# Altium footprint library WSON-10_0.PcbLib: 1 footprints
Each footprint in its own frame and in the unit in brackets; x right, y up, seen from the top. Pads: shape width x height; smd on the part's side, far side on the other; paste and mask are expansions set on the pad; w line width, h text height; cw(c..) or ccw(c..) is an arc to the next point about the centre after c.
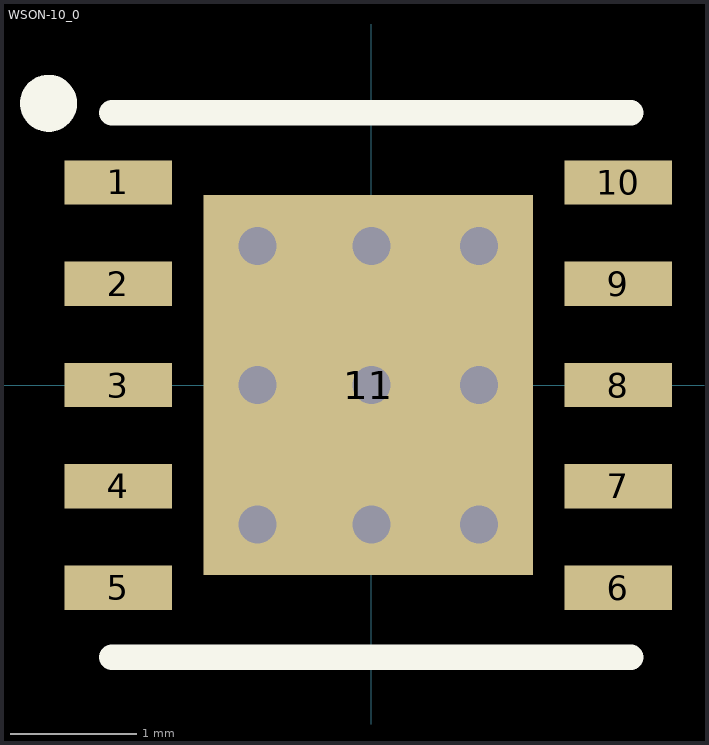
[diagram p0: the footprint, top view; thin cyan lines are the x and y axes]

## WSON-10_0 [mm]
pads (11):
  rect 0.85x0.35 smd mask+0.07: 1(-2,1.6) 2(-2,0.8) 3(-2,0) 4(-2,-0.8) 5(-2,-1.6) 6(1.95,-1.6) 7(1.95,-0.8) 8(1.95,0) 9(1.95,0.8) 10(1.95,1.6)
  rect 2.6x3 smd mask+0.07: 11(-0.025,0)
via 0,1.1 diameter 0.6 hole 0.3
via 0.85,1.1 diameter 0.6 hole 0.3
via -0.9,1.1 diameter 0.6 hole 0.3
via -0.9,0 diameter 0.6 hole 0.3
via 0.85,0 diameter 0.6 hole 0.3
via 0,0 diameter 0.6 hole 0.3
via -0.9,-1.1 diameter 0.6 hole 0.3
via 0.85,-1.1 diameter 0.6 hole 0.3
via 0,-1.1 diameter 0.6 hole 0.3
Top Overlay:
  circle w0.25: c-2.55,2.225 r0.1
  lines w0.2: -2.05,-2.15 2.05,-2.15 ; -2.05,2.15 2.05,2.15
3D body: height 0.8, standoff 0, extent -2.05,-2.05 2.05,2.05